# EAGLE library part ADHV4702-1?* (library ADHV4702)
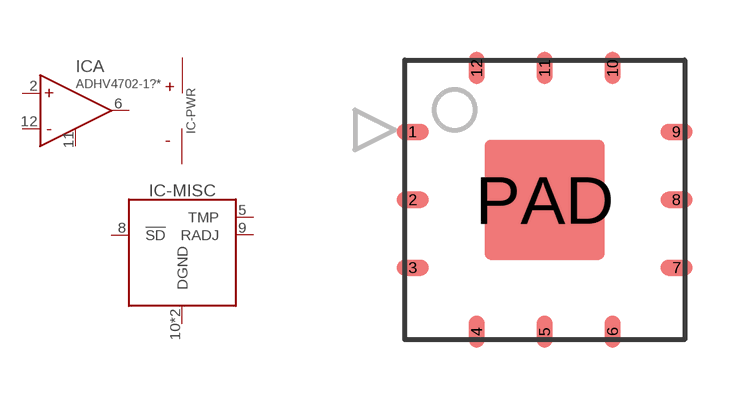
[diagram p0: symbol with the pads of QFN12; footprint QFN12]

Designator prefix IC; gates A=OP-AMP_COMP -PWR=PWR -MISC=ADHV4701-MISC

## ADHV4702-1BCPZ (MF: Analog; MPN: ADHV4702-1BCPZ), ADHV4702-1BCPZ-R7 (MF: Analog; MPN: ADHV4702-1BCPZ-R7)  [QFN12]
2  A:INP  in
4  -PWR:V-  pwr
5  -MISC:TMP  pas
6  A:OUT  out
7  -PWR:V+  pwr
8  -MISC:!SD  in
9  -MISC:RADJ
10  -MISC:DGND  pwr
11  A:COMP
12  A:INN  in
PAD  -MISC:DGND  pwr

## Footprint QFN12 (pad centres in mm)
smd 0.8 x 0.4: 1 -3.3,1.7; 2 -3.3,0; 3 -3.3,-1.7; 7 3.3,-1.7; 8 3.3,0; 9 3.3,1.7
smd 0.4 x 0.8: 4 -1.7,-3.3; 5 0,-3.3; 6 1.7,-3.3; 10 1.7,3.3; 11 0,3.3; 12 -1.7,3.3
smd 3 x 3: PAD 0,0